# EAGLE library part 504050-0791 (library 504050-0791)
Molex 504050 Series, 1.5mm Pitch 7 Way 1 Row Right Angle PCB Header, SMT Termination, 3A Source: Datasheet <https://componentsearchengine.com/Datasheets/1/504050-0791.pdf>
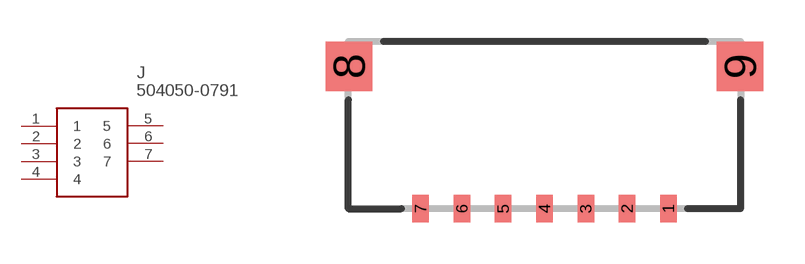
[diagram p0: symbol with the pads of 504050-0791; footprint 504050-0791]

Designator prefix J

## 504050-0791 (Description: Molex 504050 Series, 1.5mm Pitch 7 Way 1 Row Right Angle PCB Header, SMT Termination, 3A; Height: mm; Manufacturer_Name: Molex; Manufacturer_Part_Number: 504050-0791; Mouser_Part_Number: 538-504050-0791; Mouser_Price-Stock: https://www.mouser.com/Search/Refine.aspx?Keyword=538-504050-0791)  [504050-0791]
1  1
2  2
3  3
4  4
5  5
6  6
7  7

## Footprint 504050-0791 (pad centres in mm)
504050-0791
smd 0.6 x 1: 1 4.5,0; 2 3,0; 3 1.5,0; 4 0,0; 5 -1.5,0; 6 -3,0; 7 -4.5,0
smd 1.68 x 1.8: 8 -7.105,5.19; 9 7.105,5.19